# Altium footprint library Putal_GPRS.PcbLib: 13 footprints
Each footprint in its own frame and in the unit in brackets; x right, y up, seen from the top. Pads: shape width x height; smd on the part's side, far side on the other; paste and mask are expansions set on the pad; w line width, h text height; cw(c..) or ccw(c..) is an arc to the next point about the centre after c.
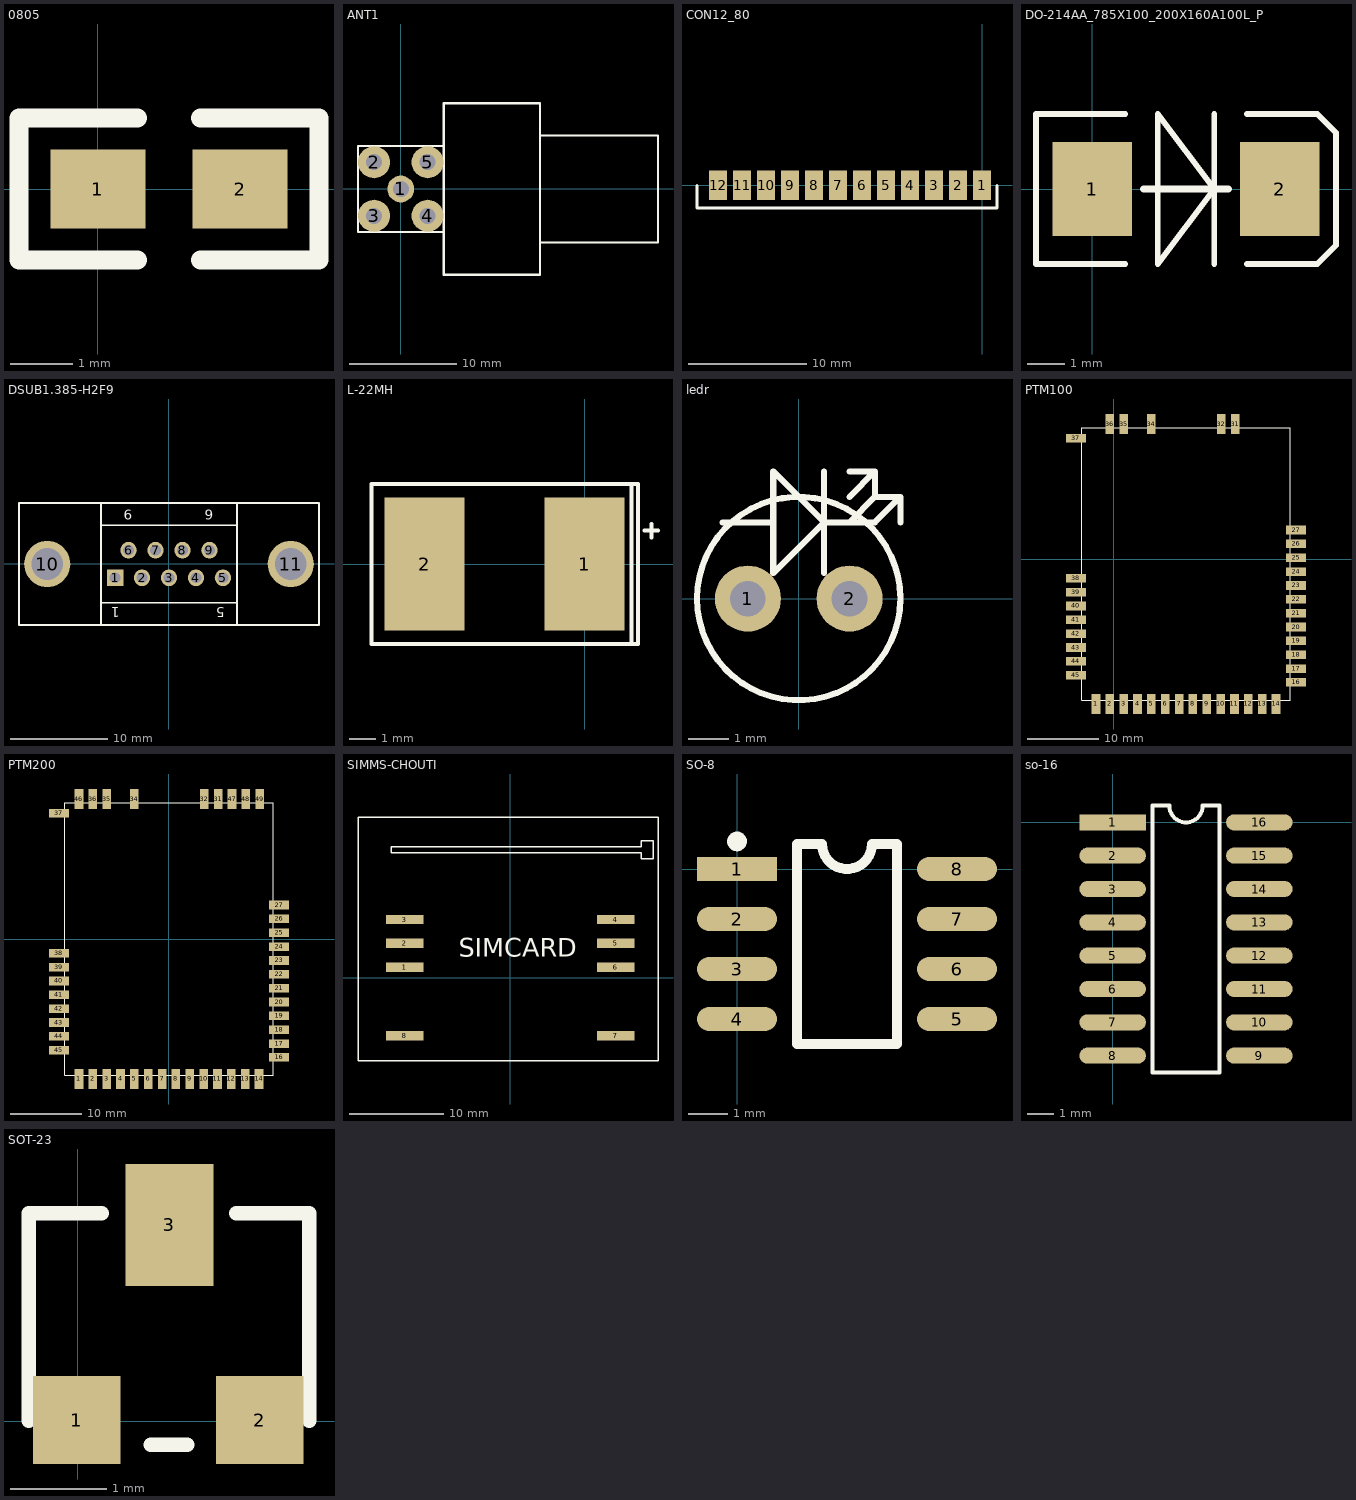
[diagram p0: the footprints below, top view; thin cyan lines are the x and y axes]

## 0805 [mil]
pads (2):
  rect 60x50 smd: 1(0,0) 2(90,0)
Top Overlay:
  lines w12: 25,-45 -50,-45 -50,45 25,45 ; 65,-45 140,-45 140,45 65,45

## ANT1 [mm]
pads (5):
  round 2.5 hole 1.5: 1(0,0)
  round 3 hole 1.5: 2(-2.5,2.5) 3(-2.5,-2.5) 4(2.5,-2.5) 5(2.5,2.5)
Top Overlay:
  lines w0.2: 4,-4 -4,-4 -4,4 4,4 ; 13,-5 24,-5 24,5 13,5 ; 4,-8 13,-8 13,8 4,8 4,5 4,-5 4,-8

## CON12_80 [mil]
pads (12):
  rect 60x100 smd: 1(0,0) 2(-80,0) 3(-160,0) 4(-240,0) 5(-320,0) 6(-400,0) 7(-480,0) 8(-560,0) 9(-640,0) 10(-720,0) 11(-800,0) 12(-880,0)
Top Overlay:
  lines w10: -950,0 -950,-75 50,-75 50,0

## DO-214AA_785X100_200X160A100L_P [mil]
pads (2):
  rect 85x100 smd: 1(0,0) 2(200,0)
Top Overlay:
  lines w6: 35,-80 -60,-80 -60,80 ; 35,80 -60,80 ; 130,-80 130,80 ; 165,-80 240,-80 260,-60 260,60 240,80 165,80 ; -60,80 -60,80 ; 70,-80 130,0 70,80 70,-80
  lines w7.87: 55,0 145,0

## DSUB1.385-H2F9 [mm]
pads (11):
  rect 1.69x1.69 hole 1.09: 1(-5.533,-1.429)
  round 1.69 hole 1.09: 2(-2.763,-1.429) 3(0.007,-1.429) 4(2.777,-1.429) 5(5.547,-1.429) 6(-4.148,1.411) 7(-1.378,1.411) 8(1.392,1.411) 9(4.162,1.411)
  round 4.76 hole 3.26: 10(-12.493,-0.009) 11(12.507,-0.009)
Top Overlay:
  lines w0.15: -6.993,-4.009 7.007,-4.009 ; -6.993,3.991 7.007,3.991
  lines w0.2: -6.993,-6.259 -6.993,6.241 ; 7.007,-6.259 7.007,6.241 ; -15.393,-6.259 -15.393,6.241 15.407,6.241 15.407,-6.259 -15.393,-6.259
  text "1" at -5.073,-4.454 h1.02
  text "5" at 5.722,-4.454 h1.02
  text "9" at 3.662,4.516 h1.02
  text "6" at -4.648,4.516 h1.02

## L-22MH [mm]
pads (2):
  rect 3x5 smd: 1(0,0) 2(-6,0)
Top Overlay:
  lines w0.152: 1.75,-3 1.75,3 ; 2.25,1.25 2.75,1.25 ; 2.5,1 2.5,1.5 ; -8,-3 2,-3 2,3 -8,3 -8,-3

## ledr [mil]
pads (2):
  round 65 hole 35: 1(-50,0) 2(50,0)
Top Overlay:
  circle w6: c0,0 r100
  lines w6: -75,75 -25,75 ; 25,25 25,125 ; 50,75 75,100 ; 50,100 75,125 ; 50,125 75,125 ; 100,75 100,100 ; 25,75 -25,125 -25,25 25,75 ; 25,75 75,75 100,100 ; 75,100 100,100 ; 75,100 75,125

## PTM100 [mm]
pads (40):
  rect 1.2x2.8 smd: 1(-2.512,-20.135) 2(-0.582,-20.135) 3(1.348,-20.135) 4(3.278,-20.135) 5(5.208,-20.135) 6(7.138,-20.135) 7(9.068,-20.135) 8(10.998,-20.135) 9(12.928,-20.135) 10(14.858,-20.135) 11(16.788,-20.135) 12(18.718,-20.135) 13(20.648,-20.135) 14(22.578,-20.135) 31(16.888,18.865) 32(14.958,18.865) 34(5.208,18.865) 35(1.348,18.865) 36(-0.582,18.865)
  rect 2.8x1.2 smd: 16(25.378,-17.135) 17(25.378,-15.205) 18(25.378,-13.275) 19(25.378,-11.345) 20(25.378,-9.415) 21(25.378,-7.485) 22(25.378,-5.555) 23(25.378,-3.625) 24(25.378,-1.695) 25(25.378,0.235) 26(25.378,2.165) 27(25.378,4.095) 37(-5.312,16.865) 38(-5.312,-2.625) 39(-5.312,-4.555) 40(-5.312,-6.485) 41(-5.312,-8.415) 42(-5.312,-10.345) 43(-5.312,-12.275) 44(-5.312,-14.205) 45(-5.312,-16.135)
Top Overlay:
  lines w0.152: -4.467,-19.635 -4.467,18.365 24.533,18.365 24.533,-19.635 -4.467,-19.635

## PTM200 [mm]
pads (44):
  rect 1.2x2.8 smd: 1(-12.545,-19.5) 2(-10.615,-19.5) 3(-8.685,-19.5) 4(-6.755,-19.5) 5(-4.825,-19.5) 6(-2.895,-19.5) 7(-0.965,-19.5) 8(0.965,-19.5) 9(2.895,-19.5) 10(4.825,-19.5) 11(6.755,-19.5) 12(8.685,-19.5) 13(10.615,-19.5) 14(12.545,-19.5) 31(6.855,19.5) 32(4.925,19.5) 34(-4.825,19.5) 35(-8.685,19.5) 36(-10.615,19.5) 46(-12.545,19.5) 47(8.785,19.5) 48(10.715,19.5) 49(12.645,19.5)
  rect 2.8x1.2 smd: 16(15.345,-16.5) 17(15.345,-14.57) 18(15.345,-12.64) 19(15.345,-10.71) 20(15.345,-8.78) 21(15.345,-6.85) 22(15.345,-4.92) 23(15.345,-2.99) 24(15.345,-1.06) 25(15.345,0.87) 26(15.345,2.8) 27(15.345,4.73) 37(-15.345,17.5) 38(-15.345,-1.99) 39(-15.345,-3.92) 40(-15.345,-5.85) 41(-15.345,-7.78) 42(-15.345,-9.71) 43(-15.345,-11.64) 44(-15.345,-13.57) 45(-15.345,-15.5)
Top Overlay:
  lines w0.152: -14.5,-19 -14.5,19 14.5,19 14.5,-19 -14.5,-19

## SIMMS-CHOUTI [mm]
pads (8):
  rect 4x1 smd: 1(-11.25,1.112) 2(-11.25,3.652) 3(-11.25,6.192) 4(11.25,6.192) 5(11.25,3.652) 6(11.25,1.112) 7(11.25,-6.208) 8(-11.25,-6.208)
Top Overlay:
  lines w0.152: 15.75,17.114 15.748,17.112 ; 15.748,17.112 15.75,17.11 15.75,-8.888 -16.25,-8.888 -16.25,17.112 15.748,17.112 ; -12.7,13.327 -12.7,13.962 13.97,13.962 13.97,14.597 15.24,14.597 15.24,13.962 15.24,12.692 13.97,12.692 13.97,13.327 -10.16,13.327 -12.7,13.327
  text "SIMCARD" at -5.49,2.212 h2

## SO-8 [mil]
pads (8):
  rect 80x24 smd: 1(0,0)
  oval 80x24 smd: 2(0,-50) 3(0,-100) 4(0,-150) 5(220,-150) 6(220,-100) 7(220,-50) 8(220,0)
Top Overlay:
  circle w9.84: c0,27.56 r4.92
  lines w10: 60,-175 160,-175 160,25 135,25 cw(c110,25) 85,25 60,25 60,-175

## so-16 [mil]
pads (16):
  rect 100x24 smd: 1(0,0)
  oval 100x24 smd: 2(0,-50) 3(0,-100) 4(0,-150) 5(0,-200) 6(0,-250) 7(0,-300) 8(0,-350) 9(220,-350) 10(220,-300) 11(220,-250) 12(220,-200) 13(220,-150) 14(220,-100) 15(220,-50) 16(220,0)
Top Overlay:
  lines w6: 60,-375 160,-375 160,25 135,25 cw(c110,25) 85,25 60,25 60,-375

## SOT-23 [mil]
pads (3):
  rect 36x36 smd: 1(-0.47,0.47) 2(74.53,0.47)
  rect 36x50 smd: 3(37.53,80.47)
Top Overlay:
  lines w6: -20.16,0.3 -20.16,85.3 9.84,85.3 ; 29.84,-9.7 44.84,-9.7 ; 64.84,85.3 94.84,85.3 94.84,0.3